# Altium schematic symbol library SM04B-SRSS-TB(LF)(SN).SchLib: 1 symbol
Pins are listed as number, name and electrical type; pins without a type are passive.

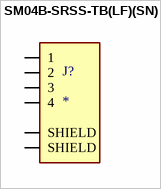
[diagram p0: symbol SM04B-SRSS-TB(LF)(SN)]

## SM04B-SRSS-TB(LF)(SN)
designator J?
Connector Header Surface Mount, Right Angle 4 position 0.039 (1.00mm); MF: JST Sales; MP: SM04B-SRSS-TB(LF)(SN); SnapEDA_Link: https://www.snapeda.com/parts/SM04B-SRSS-TB(LF)(SN)/JST/view-part/?ref=snap; Package: None; Value: *; Check_prices: https://www.snapeda.com/parts/SM04B-SRSS-TB(LF)(SN)/JST/view-part/?ref=eda
footprint JST_SM04B-SRSS-TB(LF)(SN)
pins: 1, 2, 3, 4, S1 SHIELD, S2 SHIELD